# Altium schematic symbol library SUR Connector.SchLib: 2 symbols
Pins are listed as number, name and electrical type; pins without a type are passive.

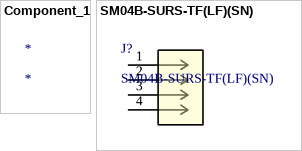
[diagram p0: symbols Component_1 to SM04B-SURS-TF(LF)(SN)]

## Component_1
designator *

## SM04B-SURS-TF(LF)(SN)
designator J?
No Description Available; Mfr_Name: JST; Copyright: Copyright (C) 2022 Ultra Librarian. All rights reserved.; Manufacturer_Part_Number: SM04B-SURS-TF(LF)(SN); Digi-Key_Part_Number_1: 455-3589-2-ND; Digi-Key_Part_Number_2: 455-3589-1-ND; Digi-Key_Part_Number_3: 455-3589-6-ND; RefDes: RefDes; Type: DEV
footprint CONN_SM04B-SURS-TF_JST
pins: 1, 2, 3, 4